# Altium schematic symbol library Connector-Ethernet.SchLib: 13 symbols
Pins are listed as number, name and electrical type; pins without a type are passive.

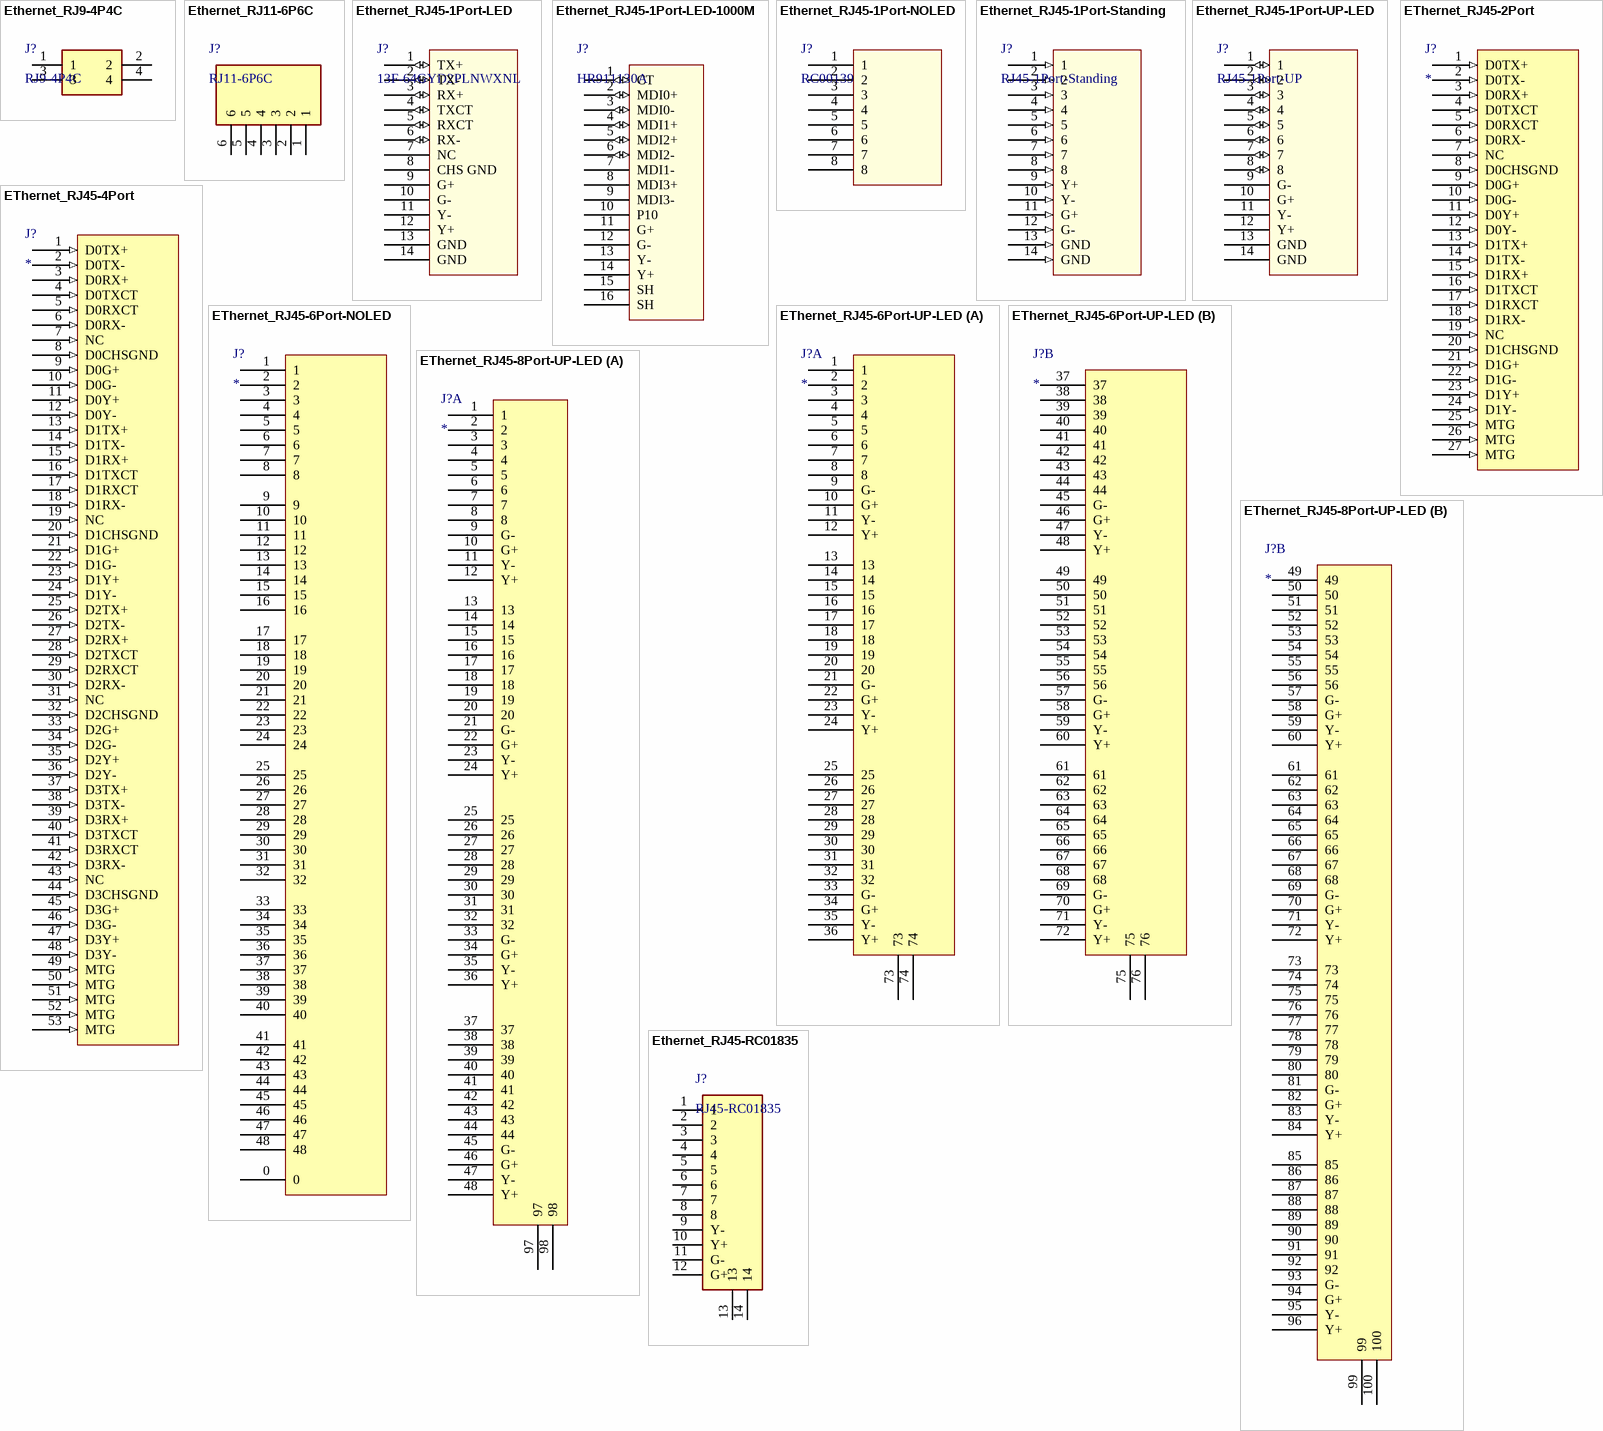
[diagram p0: symbols Ethernet_RJ9-4P4C to Ethernet_RJ45-RC01835]

## Ethernet_RJ9-4P4C
designator J?, comment RJ9-4P4C
RJ11/RJ9 链接座; Manufacturer_Name: EVERCOM(恒连); Manufacturer_Part_Number: 5501-4P4C-13MM; Manufacturer_Name_1: Ckmtw(灿科盟); Manufacturer_Part_Number_1: R-RJ11R04P-A802; LCSC: C3097719
footprint Ethernet_RJ9-4P4C-L-5201 (RJ11/RJ9-4P4C 立式 EVERCOM(恒连) 5201-440111)
footprint Ethernet_RJ9-4P4C-W-5301 (RJ11/RJ9 4P4 弯头 EVERCOM(恒连) 5301-4P4C)
footprint Ethernet_RJ9-4P4C-W-D-L (95009-7441,RJ9-4P4C 弯头)
footprint Ethernet_RJ9-4P4C-W-U (R-RJ11R04P-A802 Ckmtw(灿科盟))
footprint Ethernet_RJ9-4P4C-W-D (RJ11/RJ9-4P4C 90度 卡扣向下)
pins: 1, 2, 3, 4

## Ethernet_RJ11-6P6C
designator J?, comment RJ11-6P6C
RJ11/RJ9 链接座; Manufacturer_Name: CONNFLY; Manufacturer_Part_Number: DS1133-S60BPX; Manufacturer_Name_1: Ckmtw(灿科盟); Manufacturer_Part_Number_1: R-RJ11R06P-A800; LCSC: C77859
footprint Ethernet_RJ11_6P6C_DS1133-S60BPX
pins: 1, 2, 3, 4, 5, 6

## Ethernet_RJ45-1Port-LED
designator J?, comment 13F-64GYD2PLNWXNL
RJ45 10/100M 单口带灯 带变压器; Manufacturer_Name: YDS(元册科技); Manufacturer_Part_Number: 13F-64GYD2PLNW2NL; Manufacturer_Name_1: HANRUN(汉仁); Manufacturer_Part_Number_1: HR911105A; LCSC: C115956
footprint Ethernet_RJ45-1PORT-10/100 (21.5X16.26-H13.6)
footprint Ethernet_RJ45_R-RJ45R08P-C000(Ckmtw) (1位带灯RJ45 卡扣在上)
pins: 1 TX+ (io), 2 TX- (io), 3 RX+ (io), 4 TXCT (io), 5 RXCT (io), 6 RX- (io), 7 NC, 8 CHS GND, 9 G+ (power), 10 G- (power), 11 Y- (power), 12 Y+ (power), 13 GND (power), 14 GND (power)

## Ethernet_RJ45-1Port-LED-1000M
designator J?, comment HR911130A
RJ45 100/1000M 单口带灯 带变压器; Manufacturer_Name: HANRUN(汉仁); Manufacturer_Part_Number: HR911130A; LCSC: C54408
footprint ETHERNET_RJ45-1PORT-100/1000 (HR911130A)
pins: 1 CT (io), 2 MDI0+ (io), 3 MDI0- (io), 4 MDI1+ (io), 5 MDI2+ (io), 6 MDI2- (io), 7 MDI1-, 8 MDI3+, 9 MDI3- (power), 10 P10 (power), 11 G+ (power), 12 G- (power), 13 Y- (power), 14 Y+ (power), 15 SH (power), 16 SH (power)

## Ethernet_RJ45-1Port-NOLED
designator J?, comment RC00139
RJ45 10/100M 单口不带灯 无变压器; Manufacturer_Name: CH(瑞川); Manufacturer_Name_1: XKB Connectivity(中国星坤); Manufacturer_Part_Number_1: C2916457; Manufacturer_Part_Number: RC00139; LCSC: C708595
footprint Ethernet_RJ45_RC0139
footprint Ethernet_RJ45-SMD_MJ5688-B111-HR1-C
pins: 1, 2, 3, 4, 5, 6, 7, 8

## Ethernet_RJ45-1Port-Standing
designator J?, comment RJ45-1Port-Standing
RJ45 10/100M 单口带灯 立式贴片 无变压器; Manufacturer_Name: XUNPU(讯普); Manufacturer_Part_Number: RJ45-408-050-11; LCSC: C7421421; Manufacturer_Name_1: *; Manufacturer_Part_Number_1: *
footprint ETHERNET_RJ45-SMD_RJ45-408-050-11 (XUNPU(讯普)  RJ45-408-050-11  RJ45 立贴 带屏蔽 8P8C 带LED)
pins: 1 (in), 2 (in), 3 (in), 4 (in), 5 (in), 6 (in), 7 (in), 8 (in), 9 Y+ (in), 10 Y- (in), 11 G+ (in), 12 G- (in), 13 GND (in), 14 GND (in)

## Ethernet_RJ45-1Port-UP-LED
designator J?, comment RJ45-1Port-UP
RJ45 10/100M 单口带灯 卡扣向上 无变压器; Manufacturer_Name: Ckmtw(灿科盟); Manufacturer_Part_Number: R-RJ45R08P-C000; LCSC: C386757
footprint ETHERNET_RJ45_R-RJ45R08P-C000 (单口，弯插，带灯，卡扣在上，不带变压器 R-RJ45R08P-C000 Ckmtw(灿科盟))
footprint Ethernet_RJ45_TMJ88B-B011-RVL11-P (网口 带灯 沉板 卡扣向上)
pins: 1 (io), 2 (io), 3 (io), 4 (io), 5 (io), 6 (io), 7 (io), 8 (io), 9 G- (power), 10 G+ (power), 11 Y- (power), 12 Y+ (power), 13 GND (power), 14 GND (power)

## EThernet_RJ45-2Port
designator J?
RJ45 10/100M 4口 带灯; Manufacturer_Name: *; Manufacturer_Part_Number: *
footprint ETHERNET_RJ45-2PORT-10/100 (RJ45-TH_HR911205C,带灯,带变压器)
pins: 1 D0TX+ (in), 2 D0TX- (in), 3 D0RX+ (in), 4 D0TXCT (in), 5 D0RXCT (in), 6 D0RX- (in), 7 NC (in), 8 D0CHSGND (in), 9 D0G+ (in), 10 D0G- (in), 11 D0Y+ (in), 12 D0Y- (in), 13 D1TX+ (in), 14 D1TX- (in), 15 D1RX+ (in), 16 D1TXCT (in), 17 D1RXCT (in), 18 D1RX- (in), 19 NC (in), 20 D1CHSGND (in), 21 D1G+ (in), 22 D1G- (in), 23 D1Y+ (in), 24 D1Y- (in), 25 MTG (in), 26 MTG (in), 27 MTG (in)

## EThernet_RJ45-4Port
designator J?
RJ45 10/100M 4口 带灯; Manufacturer_Name: *; Manufacturer_Part_Number: *
footprint Ethernet_RJ45-4PORT-10/100 (21.5X59.12-H13.6)
pins: 1 D0TX+ (in), 2 D0TX- (in), 3 D0RX+ (in), 4 D0TXCT (in), 5 D0RXCT (in), 6 D0RX- (in), 7 NC (in), 8 D0CHSGND (in), 9 D0G+ (in), 10 D0G- (in), 11 D0Y+ (in), 12 D0Y- (in), 13 D1TX+ (in), 14 D1TX- (in), 15 D1RX+ (in), 16 D1TXCT (in), 17 D1RXCT (in), 18 D1RX- (in), 19 NC (in), 20 D1CHSGND (in), 21 D1G+ (in), 22 D1G- (in), 23 D1Y+ (in), 24 D1Y- (in), 25 D2TX+ (in), 26 D2TX- (in), 27 D2RX+ (in), 28 D2TXCT (in), 29 D2RXCT (in), 30 D2RX- (in), 31 NC (in), 32 D2CHSGND (in), 33 D2G+ (in), 34 D2G- (in), 35 D2Y+ (in), 36 D2Y- (in), 37 D3TX+ (in), 38 D3TX- (in), 39 D3RX+ (in), 40 D3TXCT (in), 41 D3RXCT (in), 42 D3RX- (in), 43 NC (in), 44 D3CHSGND (in), 45 D3G+ (in), 46 D3G- (in), 47 D3Y+ (in), 48 D3Y- (in), 49 MTG (in), 50 MTG (in), 51 MTG (in), 52 MTG (in), 53 MTG (in)

## EThernet_RJ45-6Port-NOLED
designator J?
RJ45 10/100M 6口不带灯 无变压器; Manufacturer_Name: CONNFLY; Manufacturer_Part_Number: DS1130-02-S8B8P; LCSC: C86584
footprint Ethernet_RJ45_DS1130-02-S8B8P
pins: 0, 1, 2, 3, 4, 5, 6, 7, 8, 9, 10, 11, 12, 13, 14, 15, 16, 17, 18, 19, 20, 21, 22, 23, 24, 25, 26, 27, 28, 29, 30, 31, 32, 33, 34, 35, 36, 37, 38, 39, 40, 41, 42, 43, 44, 45, 46, 47, 48

## EThernet_RJ45-6Port-UP-LED
designator J?
RJ45 10/100M 6口带灯 无变压器; Manufacturer_Name: CONNFLY; Manufacturer_Part_Number: DS1130-02-S8B8P; LCSC: C86584
footprint Ethernet_RJ45-6PORT-UP-LED (56-1*6-8P8C-LED带弹（不带变压器）)
part A pins: 1, 2, 3, 4, 5, 6, 7, 8, 9 G- "1.8/2.8V 20mA", 10 G+ "1.8/2.8V 20mA", 11 Y- "1.8/2.8V 20mA", 12 Y+ "1.8/2.8V 20mA", 13, 14, 15, 16, 17, 18, 19, 20, 21 G-, 22 G+, 23 Y-, 24 Y+, 25, 26, 27, 28, 29, 30, 31, 32, 33 G-, 34 G+, 35 Y-, 36 Y+, 73 "MH", 74
part B pins: 37, 38, 39, 40, 41, 42, 43, 44, 45 G-, 46 G+, 47 Y-, 48 Y+, 49, 50, 51, 52, 53, 54, 55, 56, 57 G-, 58 G+, 59 Y-, 60 Y+, 61, 62, 63, 64, 65, 66, 67, 68, 69 G-, 70 G+, 71 Y-, 72 Y+, 75, 76

## EThernet_RJ45-8Port-UP-LED
designator J?
RJ45 10/100M 8口带灯 无变压器 卡扣向上; Manufacturer_Name: CONNFLY; Manufacturer_Part_Number: DS1130-02-S8B8P; LCSC: C86584
footprint Ethernet_RJ45-8Port-UP-LED (ZP51A-8811（不带变压器）)
part A pins: 1, 2, 3, 4, 5, 6, 7, 8, 9 G- "1.8/2.8V 20mA", 10 G+ "1.8/2.8V 20mA", 11 Y- "1.8/2.8V 20mA", 12 Y+ "1.8/2.8V 20mA", 13, 14, 15, 16, 17, 18, 19, 20, 21 G-, 22 G+, 23 Y-, 24 Y+, 25, 26, 27, 28, 29, 30, 31, 32, 33 G-, 34 G+, 35 Y-, 36 Y+, 37, 38, 39, 40, 41, 42, 43, 44, 45 G-, 46 G+, 47 Y-, 48 Y+, 97, 98
part B pins: 49, 50, 51, 52, 53, 54, 55, 56, 57 G-, 58 G+, 59 Y-, 60 Y+, 61, 62, 63, 64, 65, 66, 67, 68, 69 G-, 70 G+, 71 Y-, 72 Y+, 73, 74, 75, 76, 77, 78, 79, 80, 81 G-, 82 G+, 83 Y-, 84 Y+, 85, 86, 87, 88, 89, 90, 91, 92, 93 G-, 94 G+, 95 Y-, 96 Y+, 99, 100

## Ethernet_RJ45-RC01835
designator J?, comment RJ45-RC01835
RJ45 沉板 带灯 卡扣向上; Manufacturer_Name: RCH(瑞川); Manufacturer_Part_Number: RC01835; LCSC: C708648
footprint Ethernet_RJ45-TH_RC01835 (网口 带灯 沉板)
pins: 1, 2, 3, 4, 5, 6, 7, 8, 9 Y-, 10 Y+, 11 G-, 12 G+, 13, 14